# Altium schematic symbol library BIPOLAR.SchLib: 4 symbols
Pins are listed as number, name and electrical type; pins without a type are passive.

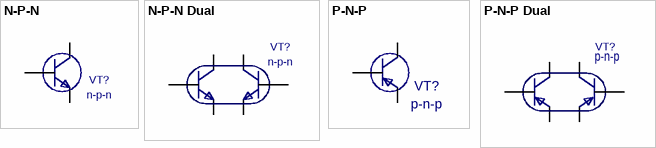
[diagram p0: symbols N-P-N to P-N-P Dual]

## N-P-N
designator VT?  value n-p-n  (hidden comment: *)
Bipolar transistor N-P-N
footprint SOT-23-3
footprint TO-126-V; pin to pad 1>3 2>1 3>2
footprint TO-126-V-HT; pin to pad 1>3 2>1 3>2
footprint TO-126-V-HT-MH; pin to pad 1>3 2>1 3>2
pins: 1 B, 2 E, 3 K

## N-P-N Dual
designator VT?  value n-p-n  (hidden comment: *)
Dual bipolar transistor N-P-N
footprint SOT-363
pins: 1 E, 2 B, 3 C, 4 E, 5 B, 6 C

## P-N-P
designator VT?
Bipolar transistor P-N-P; Value: p-n-p
footprint SOT-23-3
footprint TO-126-V; pin to pad 1>3 2>1 3>2
footprint TO-126-V-HT; pin to pad 1>3 2>1 3>2
footprint TO-126-V-HT-MH; pin to pad 1>3 2>1 3>2
pins: 1 B, 2 E, 3 K

## P-N-P Dual
designator VT?  value p-n-p  (hidden comment: *)
Dual bipolar transistor P-N-P
footprint SOT-363
pins: 1, 1, 2, 2, 6 C, 6 C